# EAGLE library part 74099-24 (library con-molex-c-grid)
C-Grid SL
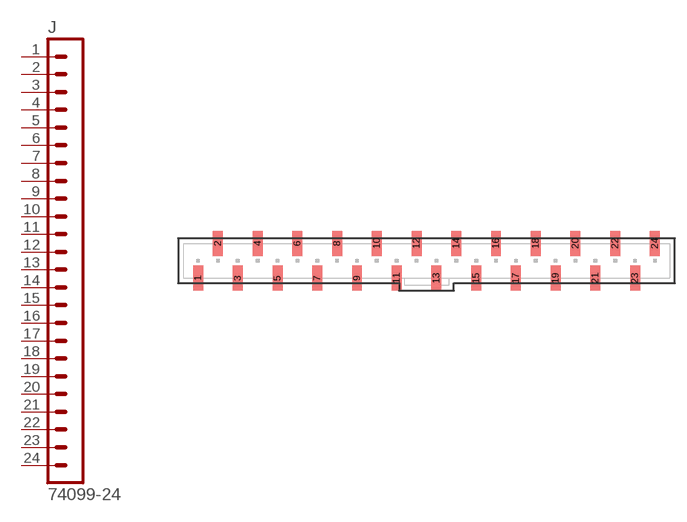
[diagram p58: symbol with the pads of 74099-24; footprint 74099-24]

Designator prefix J

## 74099-24  [74099-24]
1  1  pas
2  2  pas
3  3  pas
4  4  pas
5  5  pas
6  6  pas
7  7  pas
8  8  pas
9  9  pas
10  10  pas
11  11  pas
12  12  pas
13  13  pas
14  14  pas
15  15  pas
16  16  pas
17  17  pas
18  18  pas
19  19  pas
20  20  pas
21  21  pas
22  22  pas
23  23  pas
24  24  pas

## Footprint 74099-24 (pad centres in mm)
C-Grid SL vertical, SMD
smd 1.27 x 3.175: 1 -29.21,-2.223; 2 -26.67,2.223; 3 -24.13,-2.223; 4 -21.59,2.223; 5 -19.05,-2.223; 6 -16.51,2.223; 7 -13.97,-2.223; 8 -11.43,2.223; 9 -8.89,-2.223; 10 -6.35,2.223; 11 -3.81,-2.223; 12 -1.27,2.223; 13 1.27,-2.223; 14 3.81,2.223; 15 6.35,-2.223; 16 8.89,2.223; 17 11.43,-2.223; 18 13.97,2.223; 19 16.51,-2.223; 20 19.05,2.223; 21 21.59,-2.223; 22 24.13,2.223; 23 26.67,-2.223; 24 29.21,2.223